# Altium integrated library CD74HC4050M.IntLib: 1 symbol
Pins are listed as number, name and electrical type; pins without a type are passive.

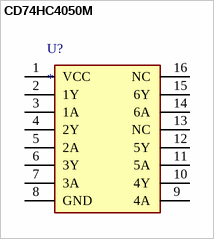
[diagram p0: symbol CD74HC4050M]

## CD74HC4050M
designator U?
Separadores y controladores de línea Hi-Spd CMOS Logic Hex Non-Inv Bfr; datasheet: https://www.ti.com/lit/ds/symlink/cd74hc4049.pdf?ts=1636012699627&ref_url=https%253A%252F%252Fwww.google.com%252F; link: https://www.mouser.es/ProductDetail/Texas-Instruments/CD74HC4050ME4?qs=xFfolx0DHx14hqY1xeFnNQ%3D%3D
footprint CD74HC4050M
footprint CD74HC4050PW (size 5.00x6.40mm)
pins: 1 VCC, 2 1Y, 3 1A, 4 2Y, 5 2A, 6 3Y, 7 3A, 8 GND, 9 4A, 10 4Y, 11 5A, 12 5Y, 13 NC, 14 6A, 15 6Y, 16 NC